# EAGLE library part LMC555 (library E3VB_ISI)
555Timer
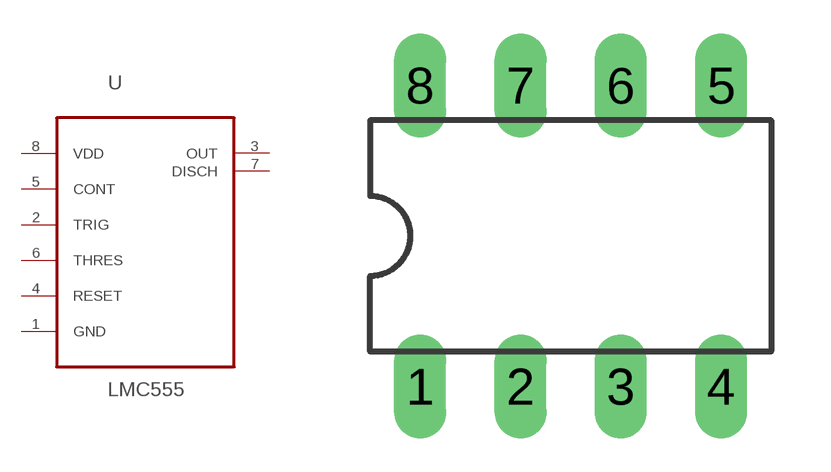
[diagram p3: symbol with the pads of 8-DIP; footprint 8-DIP]

Designator prefix -

## LMC555  [8-DIP]
1  GND  pas
2  TRIG  in
3  OUT  out
4  RESET  in
5  CONT  in
6  THRES  in
7  DISCH  out
8  VDD  pwr

## Footprint 8-DIP (pad centres in mm)
drill 0.813 long: 1 -2.54,-3.81; 2 0,-3.81; 3 2.54,-3.81; 4 5.08,-3.81; 5 5.08,3.81; 6 2.54,3.81; 7 0,3.81; 8 -2.54,3.81